# Altium schematic symbol library ALTAIR_PD_ADCs.SchLib: 1 symbol
Pins are listed as number, name and electrical type; pins without a type are passive.

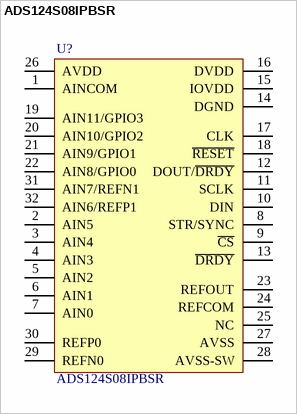
[diagram p0: symbol ADS124S08IPBSR]

## ADS124S08IPBSR
designator U?
24BIT ADC Delta-Sigma 4k samples/s PGA V-reference; Manufacturer 1: Texas Instruments; Interface: SPI; Number of Inputs: 12; Number of Bits: 24; Sampling Rate: 4000S/s; Number of A/D Converters: 1; RoHS: No; Category: Analog to Digital Converters (ADCs); Stock 1: 2523; Mount: Surface Mount; Case/Package: LQFP; Number of Pins: 32; Min Operating Temperature: -50°C; Max Operating Temperature: 125°C; Packaging: Tape and Reel; ComponentLink1URL: http://www.ti.com/general/docs/lit/getliterature.tsp?genericPartNumber=ADS124S08&fileType=pdf&src-supplier=Farnell; ComponentLink1Description: http://www.ti.com/general/docs/lit/getliterature.tsp?genericPartNumber=ADS124S08&fileType=pdf&src-supplier=Farnell; ComponentLink2URL: http://www.ti.com/lit/ds/symlink/ads124s06.pdf?src-supplier=Digi-Key; ComponentLink2Description: http://www.ti.com/lit/ds/symlink/ads124s06.pdf?src-supplier=Digi-Key; Supplier 1: Digi-Key; Supplier Part Number 1: 296-45170-1-ND; Manufacturer Part Number 1: ADS124S08IPBSR
footprint 32TQFP 7X7MM IPC LOW DENSITY (TSQFP50P700X700X120-32M)
pins: 1 AINCOM, 2 AIN5, 3 AIN4, 4 AIN3, 5 AIN2, 6 AIN1, 7 AIN0, 8 STR/SYNC, 9 ~{CS}, 10 DIN, 11 SCLK, 12 DOUT/~{DRDY}, 13 ~{DRDY}, 14 DGND, 15 IOVDD, 16 DVDD, 17 CLK, 18 ~{RESET}, 19 AIN11/GPIO3, 20 AIN10/GPIO2, 21 AIN9/GPIO1, 22 AIN8/GPIO0, 23 REFOUT, 24 REFCOM, 25 NC, 26 AVDD, 27 AVSS, 28 AVSS-SW, 29 REFN0, 30 REFP0, 31 AIN7/REFN1, 32 AIN6/REFP1